# Altium footprint library CAPC2012X140N.PcbLib: 1 footprints
Each footprint in its own frame and in the unit in brackets; x right, y up, seen from the top. Pads: shape width x height; smd on the part's side, far side on the other; paste and mask are expansions set on the pad; w line width, h text height; cw(c..) or ccw(c..) is an arc to the next point about the centre after c.
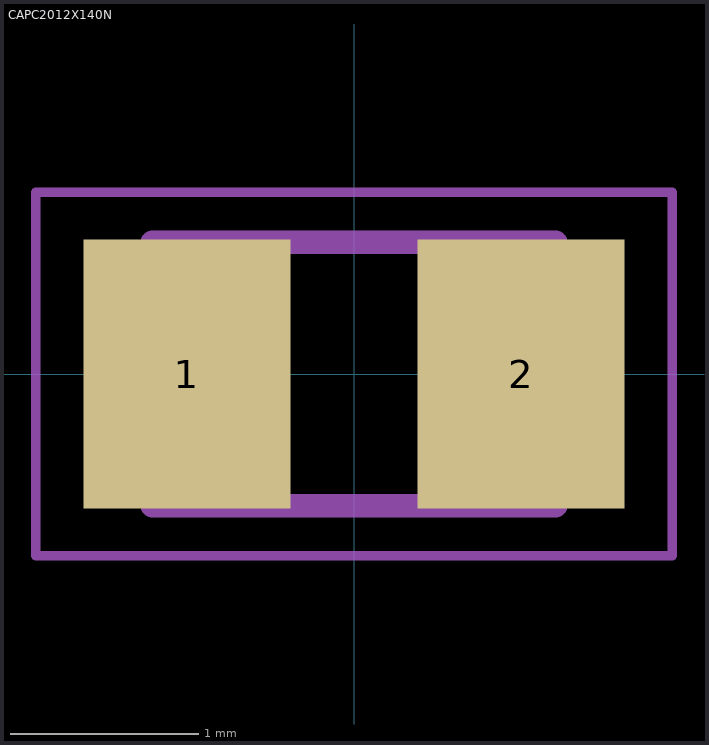
[diagram p0: the footprint, top view; thin cyan lines are the x and y axes]

## CAPC2012X140N [mm]
pads (2):
  rect 1.1x1.43 smd: 1(-0.888,0) 2(0.888,0)
Assembly Top:
  lines w0.127: -1.07,-0.7 -1.07,0.7 1.07,0.7 1.07,-0.7 -1.07,-0.7
Courtyard Top:
  lines w0.05: -1.69,-0.965 -1.69,0.965 1.69,0.965 1.69,-0.965 -1.69,-0.965
3D body "step_temp.STEP": height 1.4, standoff 0, extent -1,-0.625 1,0.625